# Altium schematic symbol library RArray-MAX5491_1.Schlib: 1 symbol
Pins are listed as number, name and electrical type; pins without a type are passive.

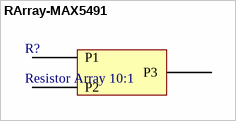
[diagram p0: symbol RArray-MAX5491]

## RArray-MAX5491
designator R?, comment Resistor Array 10:1
footprint SOT95P237X112-3N (SOT23, 3-Leads, Body 2.92x2.37mm, Pitch 0.95mm, IPC Medium Density)
pins: 1 P1, 2 P2, 3 P3